# Altium schematic symbol library Active.SchLib: 52 symbols
Pins are listed as number, name and electrical type; pins without a type are passive.

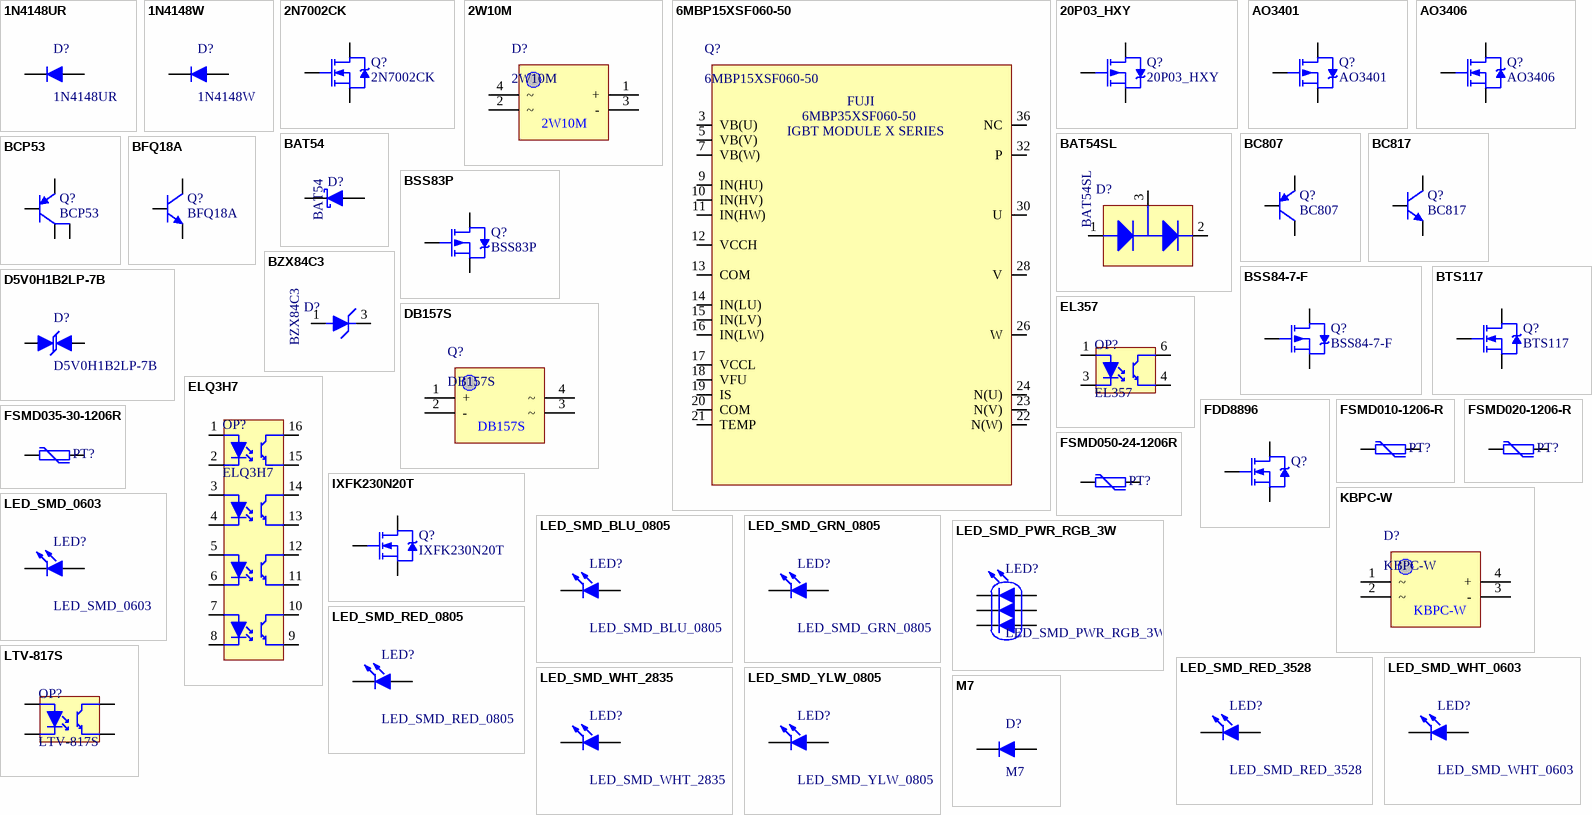
[diagram p0: symbols 1N4148UR to M7]

## 1N4148UR
designator D?
footprint DO-213AA-M (MELF Diode, 2-Leads, Body 3,50x1,65mm, IPC Low Density)
footprint DO-213AA-N (MELF Diode, 2-Leads, Body 3,50x1,65mm, IPC Medium Density)
footprint DO-213AA-L (MELF Diode, 2-Leads, Body 3,50x1,65mm, IPC High Density)
pins: 1 A, 2 K

## 1N4148W
designator D?
footprint SOD-123-M (SODFL, 2-Leads, Body 1,55x3,70mm, IPC Low Density)
footprint SOD-123-N (SODFL, 2-Leads, Body 1,55x3,70mm, IPC Medium Density)
footprint SOD-123-L (SODFL, 2-Leads, Body 1,55x3,70mm, IPC High Density)
pins: 1 A, 2 K

## 2N7002CK
designator Q?
footprint SOT23-3-M (SOT23, 3-Leads, Body 2.90x2.45mm, Pitch 0.95mm, IPC Low Density)
footprint SOT23-3-N (SOT23, 3-Leads, Body 2.90x2.45mm, Pitch 0.95mm, IPC Medium Density)
footprint SOT23-3-L (SOT23, 3-Leads, Body 2.90x2.45mm, Pitch 0.95mm, IPC High Density)
pins: 1 G, 2 S, 3 D

## 2W10M
designator D?
footprint 2W10M
pins: 1 +, 2 ~, 3 -, 4 ~

## 6MBP15XSF060-50
designator Q?
Link: https://www.ozdisan.com/power-semiconductors/igbts/module-ipm-igbts/6MBP35XSF-060-50/490507
footprint 6MBPxxXSF060-50
pins: 3 VB(U), 5 VB(V), 7 VB(W), 9 IN(HU), 10 IN(HV), 11 IN(HW), 12 VCCH, 13 COM, 14 IN(LU), 15 IN(LV), 16 IN(LW), 17 VCCL, 18 VFU, 19 IS, 20 COM, 21 TEMP, 22 N(W), 23 N(V), 24 N(U), 26 W, 28 V, 30 U, 32 P, 36 NC
text: FUJI; 6MBP35XSF060-50; IGBT MODULE X SERIES

## 20P03_HXY
designator Q?
P-Channel MOSFET
footprint DPAK-TO252-3-M (D-PAK, 3-Pads, Body 6.20x6.72mm (max), IPC Low Density)
footprint DPAK-TO252-3-N (D-PAK, 3-Pads, Body 6.20x6.72mm (max), IPC Medium Density)
footprint DPAK-TO252-3-L (D-PAK, 3-Pads, Body 6.20x6.72mm (max), IPC High Density)
pins: 1 G, 3 S, 4 D

## AO3401
designator Q?
footprint SOT23-3-M (SOT23, 3-Leads, Body 2.90x2.45mm, Pitch 0.95mm, IPC Low Density)
footprint SOT23-3-N (SOT23, 3-Leads, Body 2.90x2.45mm, Pitch 0.95mm, IPC Medium Density)
footprint SOT23-3-L (SOT23, 3-Leads, Body 2.90x2.45mm, Pitch 0.95mm, IPC High Density)
pins: 1 G, 2 S, 3 D

## AO3406
designator Q?
footprint SOT23-3-M (SOT23, 3-Leads, Body 2.90x2.45mm, Pitch 0.95mm, IPC Low Density)
footprint SOT23-3-N (SOT23, 3-Leads, Body 2.90x2.45mm, Pitch 0.95mm, IPC Medium Density)
footprint SOT23-3-L (SOT23, 3-Leads, Body 2.90x2.45mm, Pitch 0.95mm, IPC High Density)
pins: 1 G, 2 S, 3 D

## BAT54
designator D?
footprint SOT23-3-M (SOT23, 3-Leads, Body 2.90x2.45mm, Pitch 0.95mm, IPC Low Density)
footprint SOT23-3-N (SOT23, 3-Leads, Body 2.90x2.45mm, Pitch 0.95mm, IPC Medium Density)
footprint SOT23-3-L (SOT23, 3-Leads, Body 2.90x2.45mm, Pitch 0.95mm, IPC High Density)
pins: 1 A, 3 K

## BAT54SL
designator D?
footprint SOT23-3-M (SOT23, 3-Leads, Body 2.90x2.45mm, Pitch 0.95mm, IPC Low Density)
footprint SOT23-3-N (SOT23, 3-Leads, Body 2.90x2.45mm, Pitch 0.95mm, IPC Medium Density)
footprint SOT23-3-L (SOT23, 3-Leads, Body 2.90x2.45mm, Pitch 0.95mm, IPC High Density)
pins: 1 A, 2 K, 3 COM

## BC807
designator Q?
footprint SOT23-3-M (SOT23, 3-Leads, Body 2.90x2.45mm, Pitch 0.95mm, IPC Low Density)
footprint SOT23-3-N (SOT23, 3-Leads, Body 2.90x2.45mm, Pitch 0.95mm, IPC Medium Density)
footprint SOT23-3-L (SOT23, 3-Leads, Body 2.90x2.45mm, Pitch 0.95mm, IPC High Density)
pins: 1 B, 2 E, 3 C

## BC817
designator Q?
footprint SOT23-3-M (SOT23, 3-Leads, Body 2.90x2.45mm, Pitch 0.95mm, IPC Low Density)
footprint SOT23-3-N (SOT23, 3-Leads, Body 2.90x2.45mm, Pitch 0.95mm, IPC Medium Density)
footprint SOT23-3-L (SOT23, 3-Leads, Body 2.90x2.45mm, Pitch 0.95mm, IPC High Density)
pins: 1 B, 2 E, 3 C

## BCP53
designator Q?
footprint SOT223-4M (SOT223, 4-Leads, Body 6,50x7,00mm (avg), Pitch 2,30mm, IPC Low Density)
footprint SOT223-4N (SOT223, 4-Leads, Body 6,50x7,00mm (avg), Pitch 2,30mm, IPC Medium Density)
footprint SOT223-4L (SOT223, 4-Leads, Body 6,50x7,00mm (avg), Pitch 2,30mm, IPC High Density)
pins: 1 B, 2 C, 3 E, 4 C

## BFQ18A
designator Q?
footprint SOT89-3-M (SOT89, 3-Leads, Body 4.50x2.45mm, Pitch 1.50mm, Lead Span 4.1mm, IPC Low Density)
footprint SOT89-3-N (SOT89, 3-Leads, Body 4.50x2.45mm, Pitch 1.50mm, Lead Span 4.1mm, IPC Medium Density)
footprint SOT89-3-L (SOT89, 3-Leads, Body 4.50x2.45mm, Pitch 1.50mm, Lead Span 4.1mm, IPC High Density)
pins: 1 B, 2 C, 3 E

## BSS83P
designator Q?
footprint SOT23-3-M (SOT23, 3-Leads, Body 2.90x2.45mm, Pitch 0.95mm, IPC Low Density)
footprint SOT23-3-N (SOT23, 3-Leads, Body 2.90x2.45mm, Pitch 0.95mm, IPC Medium Density)
footprint SOT23-3-L (SOT23, 3-Leads, Body 2.90x2.45mm, Pitch 0.95mm, IPC High Density)
pins: 1 G, 2 S, 3 D

## BSS84-7-F
designator Q?
footprint SOT23-3-M (SOT23, 3-Leads, Body 2.90x2.45mm, Pitch 0.95mm, IPC Low Density)
footprint SOT23-3-N (SOT23, 3-Leads, Body 2.90x2.45mm, Pitch 0.95mm, IPC Medium Density)
footprint SOT23-3-L (SOT23, 3-Leads, Body 2.90x2.45mm, Pitch 0.95mm, IPC High Density)
pins: 1 G, 2 S, 3 D

## BTS117
designator Q?
footprint TO220AB
pins: 1 G, 2 D, 3 S

## BZX84C3
designator D?
footprint SOT23-3-M (SOT23, 3-Leads, Body 2.90x2.45mm, Pitch 0.95mm, IPC Low Density)
footprint SOT23-3-N (SOT23, 3-Leads, Body 2.90x2.45mm, Pitch 0.95mm, IPC Medium Density)
footprint SOT23-3-L (SOT23, 3-Leads, Body 2.90x2.45mm, Pitch 0.95mm, IPC High Density)
pins: 1 A, 3 COM

## D5V0H1B2LP-7B
designator D?
TVS-6V to 12.5V 30A
footprint X1-DFN1006-2-M (DFN, 2-Leads, Body 0.61x1.01mm, Pitch 0.65mm, IPC Low Density)
footprint X1-DFN1006-2-N (DFN, 2-Leads, Body 0.61x1.01mm, Pitch 0.65mm, IPC Medium Density)
footprint X1-DFN1006-2-L (DFN, 2-Leads, Body 0.61x1.01mm, Pitch 0.65mm, IPC High Density)
pins: 1 A, 2 K

## DB157S
designator Q?
footprint DB157S-4-M (SOP, 4-Leads, Body 8,32x6,35mm, Pitch 5,00mm, IPC Low Density)
footprint DB157S-4-N (SOP, 4-Leads, Body 8,32x6,35mm, Pitch 5,00mm, IPC Medium Density)
footprint DB157S-4-L (SOP, 4-Leads, Body 8,32x6,35mm, Pitch 5,00mm, IPC High Density)
pins: 1 +, 2 -, 3 ~, 4 ~

## EL357
designator OP?
footprint MFSOP6-4-M (SOP, 4-Leads, Body 3,60x4,40mm, Pitch 2,54mm, IPC Low Density)
footprint MFSOP6-4-N (SOP, 4-Leads, Body 3,60x4,40mm, Pitch 2,54mm, IPC Medium Density)
footprint MFSOP6-4-L (SOP, 4-Leads, Body 3,60x4,40mm, Pitch 2,54mm, IPC High Density)
pins: 1 A, 3 K, 4 E, 6 C

## ELQ3H7
designator OP?
Link: https://www.digikey.co.uk/en/products/detail/everlight-electronics-co-ltd/ELQ3H7-TA/5142605?s=N4IgTCBcDaIKIBkCKBmAEgdhAXQL5A
footprint SOIC-16-M (SOIC, 16-Leads, Body 9.90x3.90mm, Pitch 1.27mm, IPC Low Density)
footprint SOIC-16-N (SOIC, 16-Leads, Body 9.90x3.90mm, Pitch 1.27mm, IPC Medium Density)
footprint SOIC-16-L (SOIC, 16-Leads, Body 9.90x3.90mm, Pitch 1.27mm, IPC High Density)
pins: 1 A, 2 K, 3 A, 4 K, 5 A, 6 K, 7 A, 8 K, 9 E, 10 C, 11 E, 12 C, 13 E, 14 C, 15 E, 16 C

## FDD8896
designator Q?  (value not drawn)
N-Channel MOSFET
footprint DPAK-TO252-3-M (D-PAK, 3-Pads, Body 6.20x6.72mm (max), IPC Low Density)
footprint DPAK-TO252-3-N (D-PAK, 3-Pads, Body 6.20x6.72mm (max), IPC Medium Density)
footprint DPAK-TO252-3-L (D-PAK, 3-Pads, Body 6.20x6.72mm (max), IPC High Density)
pins: 1 G, 3 S, 4 D

## FSMD010-1206-R
designator PT?  (value not drawn)
Link: https://ozdisan.com/circuit-protections/fuse-components/ptc-resettable-fuses/FSMD010-1206-R/449061
footprint RESC-1206-M (Chip Resistor, 2-Leads, Body 3.05x1.60mm, IPC Low Density)
footprint RESC-1206-N (Chip Resistor, 2-Leads, Body 3.05x1.60mm, IPC Medium Density)
footprint RESC-1206-L (Chip Resistor, 2-Leads, Body 3.05x1.60mm, IPC High Density)
pins: 1 A, 2 B

## FSMD020-1206-R
designator PT?  (value not drawn)
Link: https://ozdisan.com/circuit-protections/fuse-components/ptc-resettable-fuses/FSMD020-1206-R/339162
footprint RESC-1206-M (Chip Resistor, 2-Leads, Body 3.05x1.60mm, IPC Low Density)
footprint RESC-1206-N (Chip Resistor, 2-Leads, Body 3.05x1.60mm, IPC Medium Density)
footprint RESC-1206-L (Chip Resistor, 2-Leads, Body 3.05x1.60mm, IPC High Density)
pins: 1 A, 2 B

## FSMD035-30-1206R
designator PT?  (value not drawn)
Link: https://ozdisan.com/circuit-protections/fuse-components/ptc-resettable-fuses/FSMD035-30-1206R/468953
footprint RESC-1206-M (Chip Resistor, 2-Leads, Body 3.05x1.60mm, IPC Low Density)
footprint RESC-1206-N (Chip Resistor, 2-Leads, Body 3.05x1.60mm, IPC Medium Density)
footprint RESC-1206-L (Chip Resistor, 2-Leads, Body 3.05x1.60mm, IPC High Density)
pins: 1 A, 2 B

## FSMD050-24-1206R
designator PT?  (value not drawn)
Link: https://ozdisan.com/circuit-protections/fuse-components/ptc-resettable-fuses/FSMD050-24-1206R/537038
footprint RESC-1206-M (Chip Resistor, 2-Leads, Body 3.05x1.60mm, IPC Low Density)
footprint RESC-1206-N (Chip Resistor, 2-Leads, Body 3.05x1.60mm, IPC Medium Density)
footprint RESC-1206-L (Chip Resistor, 2-Leads, Body 3.05x1.60mm, IPC High Density)
pins: 1 A, 2 B

## IXFK230N20T
designator Q?
footprint TO264-V
pins: 1 G, 2 D, 3 S

## KBPC-W
designator D?
footprint KBPC-W
pins: 1 ~, 2 ~, 3 -, 4 +

## LED_SMD_0603
designator LED?
footprint LED-0603-M (Chip Diode, 2-Leads, Body 1,60x0,80mm, IPC Low Density)
footprint LED-0603-N (Chip Diode, 2-Leads, Body 1,60x0,80mm, IPC Medium Density)
footprint LED-0603-L (Chip Diode, 2-Leads, Body 1,60x0,80mm, IPC High Density)
pins: 1 A, 2 K

## LED_SMD_BLU_0805
designator LED?
footprint LED-BLU-0805-M (Chip Diode, 2-Leads, Body 2.00x1.25mm, IPC Low Density)
pins: 1 A, 2 K

## LED_SMD_GRN_0805
designator LED?
footprint LED-GRN-0805-M (Chip Diode, 2-Leads, Body 2.00x1.25mm, IPC Low Density)
pins: 1 A, 2 K

## LED_SMD_PWR_RGB_3W
designator LED?
footprint LED_SMD_PWR_RGB_3W
pins: 1 A_R, 2 K_R, 3 A_G, 4 K_G, 5 A_B, 6 K_B

## LED_SMD_RED_0805
designator LED?
footprint LED-RED-0805-M (Chip Diode, 2-Leads, Body 2.00x1.25mm, IPC Low Density)
footprint LED-RED-0805-N (Chip Diode, 2-Leads, Body 2.00x1.25mm, IPC Medium Density)
footprint LED-RED-0805-L (Chip Diode, 2-Leads, Body 2.00x1.25mm, IPC High Density)
pins: 1 A, 2 K

## LED_SMD_RED_3528
designator LED?
footprint LED-RED-3528-M (Chip Diode, 2-Leads, Body 3,65x2,95mm, IPC Low Density)
footprint LED-RED-3528-N (Chip Diode, 2-Leads, Body 3,65x2,95mm, IPC Medium Density)
footprint LED-RED-3528-L (Chip Diode, 2-Leads, Body 3,65x2,95mm, IPC High Density)
pins: 1 A, 2 K

## LED_SMD_WHT_0603
designator LED?
footprint LED-WHITE-0603-M (Chip Diode, 2-Leads, Body 1,60x0,80mm, IPC Low Density)
footprint LED-WHITE-0603-N (Chip Diode, 2-Leads, Body 1,60x0,80mm, IPC Medium Density)
footprint LED-WHITE-0603-L (Chip Diode, 2-Leads, Body 1,60x0,80mm, IPC High Density)
pins: 1 A, 2 K

## LED_SMD_WHT_2835
designator LED?
footprint LED-WHITE-2835-M (Chip Diode, 2-Leads, Body 3,60x2,90mm, IPC Low Density)
footprint LED-WHITE-2835-N (Chip Diode, 2-Leads, Body 3,60x2,90mm, IPC Medium Density)
footprint LED-WHITE-2835-L (Chip Diode, 2-Leads, Body 3,60x2,90mm, IPC High Density)
pins: 1 A, 2 K

## LED_SMD_YLW_0805
designator LED?
footprint LED-YLW-0805-M (Chip Diode, 2-Leads, Body 2.00x1.25mm, IPC Low Density)
pins: 1 A, 2 K

## LTV-817S
designator OP?
footprint LTV-817S
pins: 1 A, 2 K, 3 E, 4 C

## M7
designator D?
footprint DO-214AC-M (Chip Diode, 2-Leads, Body 5.04x2.70mm, IPC Low Density)
footprint DO-214AC-N (Chip Diode, 2-Leads, Body 5.04x2.70mm, IPC Medium Density)
footprint DO-214AC-L (Chip Diode, 2-Leads, Body 5.04x2.70mm, IPC High Density)
pins: 1 A, 2 K

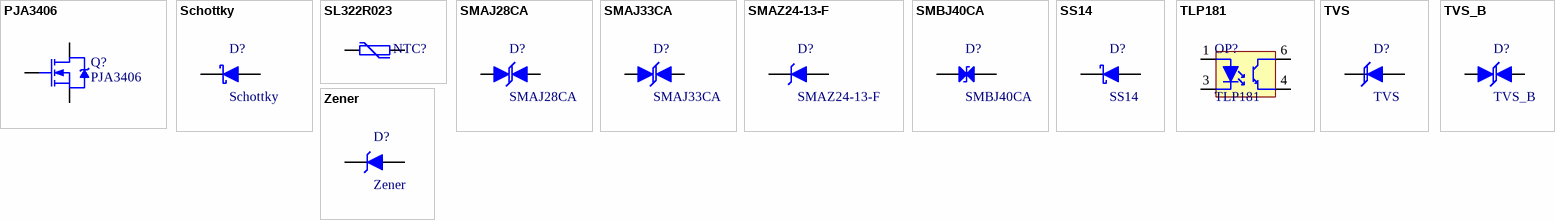
[diagram p1: symbols PJA3406 to Zener]

## PJA3406
designator Q?
footprint SOT23-3-M (SOT23, 3-Leads, Body 2.90x2.45mm, Pitch 0.95mm, IPC Low Density)
footprint SOT23-3-N (SOT23, 3-Leads, Body 2.90x2.45mm, Pitch 0.95mm, IPC Medium Density)
footprint SOT23-3-L (SOT23, 3-Leads, Body 2.90x2.45mm, Pitch 0.95mm, IPC High Density)
pins: 1 G, 2 S, 3 D

## Schottky
designator D?
pins: 1 A, 2 K

## SL322R023
designator NTC?  (value not drawn)
Link: https://www.digikey.de/de/products/detail/vishay-ametherm/SL322R023/749901
footprint SL322R023
pins: 1 A, 2 B

## SMAJ28CA
designator D?
Link: https://ozdisan.com/power-semiconductors/diodes-diode-modules-and-rectifiers/tvs-diodes/SMAJ28CA-HT/466819
footprint DO-214AC-M (Chip Diode, 2-Leads, Body 5.04x2.70mm, IPC Low Density)
footprint DO-214AC-N (Chip Diode, 2-Leads, Body 5.04x2.70mm, IPC Medium Density)
footprint DO-214AC-L (Chip Diode, 2-Leads, Body 5.04x2.70mm, IPC High Density)
pins: 1 A, 2 K

## SMAJ33CA
designator D?
Link: https://www.ozdisan.com/power-semiconductors/diodes-diode-modules-and-rectifiers/tvs-diodes/SMAJ33CA-HT/466822
footprint DO-214AC-M (Chip Diode, 2-Leads, Body 5.04x2.70mm, IPC Low Density)
footprint DO-214AC-N (Chip Diode, 2-Leads, Body 5.04x2.70mm, IPC Medium Density)
footprint DO-214AC-L (Chip Diode, 2-Leads, Body 5.04x2.70mm, IPC High Density)
pins: 1 A, 2 K

## SMAZ24-13-F
designator D?
Link: https://ozdisan.com/power-semiconductors/diodes-diode-modules-and-rectifiers/zener-diodes/SMAZ24-13-F/728711
footprint DO-214AC-M (Chip Diode, 2-Leads, Body 5.04x2.70mm, IPC Low Density)
footprint DO-214AC-N (Chip Diode, 2-Leads, Body 5.04x2.70mm, IPC Medium Density)
footprint DO-214AC-L (Chip Diode, 2-Leads, Body 5.04x2.70mm, IPC High Density)
pins: 1 A, 2 K

## SMBJ40CA
designator D?
footprint DO-214AA-M (Chip Diode, 2-Leads, Body 5,40x3,62mm, IPC Low Density)
footprint DO-214AA-N (Chip Diode, 2-Leads, Body 5,40x3,62mm, IPC Medium Density)
footprint DO-214AA-L (Chip Diode, 2-Leads, Body 5,40x3,62mm, IPC High Density)
pins: 1 A, 2 K

## SS14
designator D?
footprint DO-214AC-M (Chip Diode, 2-Leads, Body 5.04x2.70mm, IPC Low Density)
footprint DO-214AC-N (Chip Diode, 2-Leads, Body 5.04x2.70mm, IPC Medium Density)
footprint DO-214AC-L (Chip Diode, 2-Leads, Body 5.04x2.70mm, IPC High Density)
pins: 1 A, 2 K

## TLP181
designator OP?
footprint MFSOP6-4-M (SOP, 4-Leads, Body 3,60x4,40mm, Pitch 2,54mm, IPC Low Density)
footprint MFSOP6-4-N (SOP, 4-Leads, Body 3,60x4,40mm, Pitch 2,54mm, IPC Medium Density)
footprint MFSOP6-4-L (SOP, 4-Leads, Body 3,60x4,40mm, Pitch 2,54mm, IPC High Density)
pins: 1 A, 3 K, 4 E, 6 C

## TVS
designator D?
footprint DO-214AC-M (Chip Diode, 2-Leads, Body 5.04x2.70mm, IPC Low Density)
footprint DO-214AC-N (Chip Diode, 2-Leads, Body 5.04x2.70mm, IPC Medium Density)
footprint DO-214AC-L (Chip Diode, 2-Leads, Body 5.04x2.70mm, IPC High Density)
pins: 1 A, 2 K

## TVS_B
designator D?
footprint DO-214AC-M (Chip Diode, 2-Leads, Body 5.04x2.70mm, IPC Low Density)
footprint DO-214AC-N (Chip Diode, 2-Leads, Body 5.04x2.70mm, IPC Medium Density)
footprint DO-214AC-L (Chip Diode, 2-Leads, Body 5.04x2.70mm, IPC High Density)
pins: 1 A, 2 K

## Zener
designator D?
footprint DO-214AC-M (Chip Diode, 2-Leads, Body 5.04x2.70mm, IPC Low Density)
footprint DO-214AC-N (Chip Diode, 2-Leads, Body 5.04x2.70mm, IPC Medium Density)
footprint DO-214AC-L (Chip Diode, 2-Leads, Body 5.04x2.70mm, IPC High Density)
pins: 1 A, 2 K